# Altium schematic symbol library SCH - MCU - SI LABS - SI LABS EFM32GG12B510F1024IQ64 64-PIN QFP 10X10.SchLib: 1 symbol
Pins are listed as number, name and electrical type; pins without a type are passive.

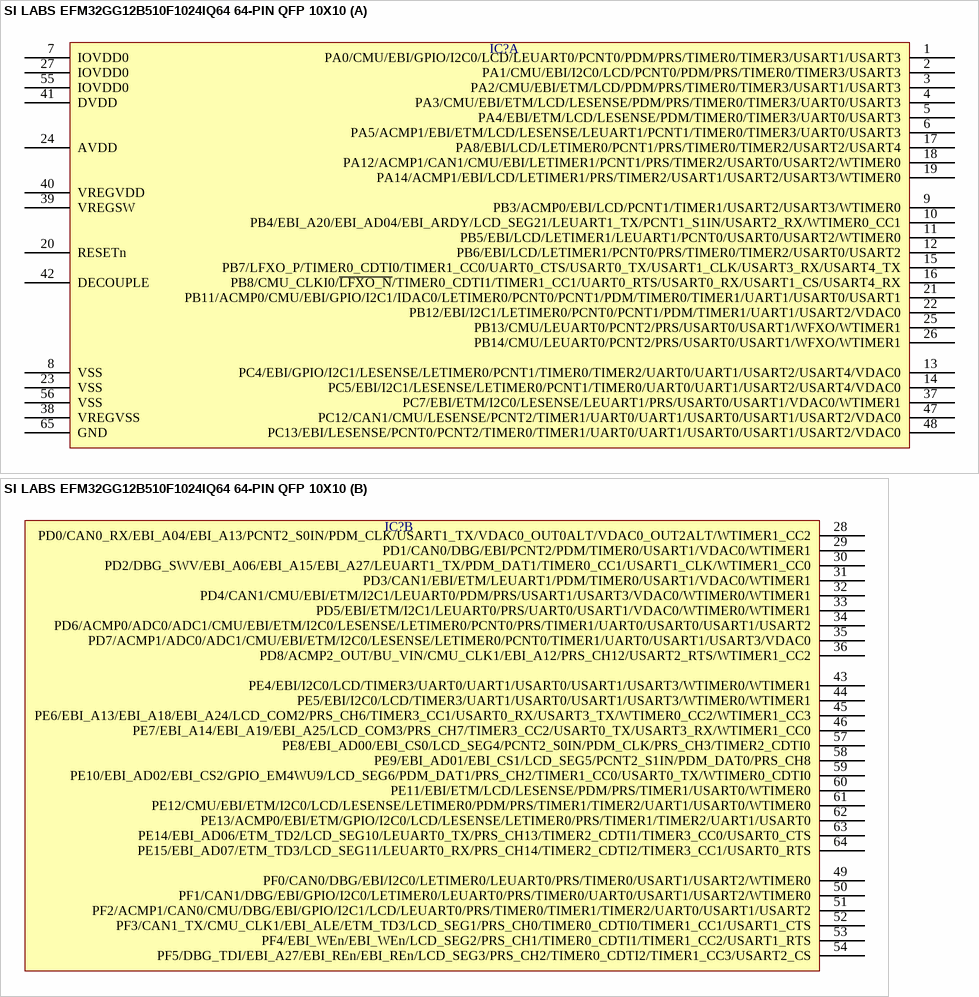
[diagram p0: symbol SI LABS EFM32GG12B510F1024IQ64 64-PIN QFP 10X10]

## SI LABS EFM32GG12B510F1024IQ64 64-PIN QFP 10X10
designator IC?  (value not drawn)
part A pins: 1 PA0/CMU/EBI/GPIO/I2C0/LCD/LEUART0/PCNT0/PDM/PRS/TIMER0/TIMER3/USART1/USART3, 2 PA1/CMU/EBI/I2C0/LCD/PCNT0/PDM/PRS/TIMER0/TIMER3/USART3, 3 PA2/CMU/EBI/ETM/LCD/PDM/PRS/TIMER0/TIMER3/USART1/USART3, 4 PA3/CMU/EBI/ETM/LCD/LESENSE/PDM/PRS/TIMER0/TIMER3/UART0/USART3, 5 PA4/EBI/ETM/LCD/LESENSE/PDM/TIMER0/TIMER3/UART0/USART3, 6 PA5/ACMP1/EBI/ETM/LCD/LESENSE/LEUART1/PCNT1/TIMER0/TIMER3/UART0/USART3, 7 IOVDD0, 8 VSS, 9 PB3/ACMP0/EBI/LCD/PCNT1/TIMER1/USART2/USART3/WTIMER0, 10 PB4/EBI_A20/EBI_AD04/EBI_ARDY/LCD_SEG21/LEUART1_TX/PCNT1_S1IN/USART2_RX/WTIMER0_CC1, 11 PB5/EBI/LCD/LETIMER1/LEUART1/PCNT0/USART0/USART2/WTIMER0, 12 PB6/EBI/LCD/LETIMER1/PCNT0/PRS/TIMER0/TIMER2/USART0/USART2, 13 PC4/EBI/GPIO/I2C1/LESENSE/LETIMER0/PCNT1/TIMER0/TIMER2/UART0/UART1/USART2/USART4/VDAC0, 14 PC5/EBI/I2C1/LESENSE/LETIMER0/PCNT1/TIMER0/UART0/UART1/USART2/USART4/VDAC0, 15 PB7/LFXO_P/TIMER0_CDTI0/TIMER1_CC0/UART0_CTS/USART0_TX/USART1_CLK/USART3_RX/USART4_TX, 16 PB8/CMU_CLKI0/~{LFXO_N}/TIMER0_CDTI1/TIMER1_CC1/UART0_RTS/USART0_RX/USART1_CS/USART4_RX, 17 PA8/EBI/LCD/LETIMER0/PCNT1/PRS/TIMER0/TIMER2/USART2/USART4, 18 PA12/ACMP1/CAN1/CMU/EBI/LETIMER1/PCNT1/PRS/TIMER2/USART0/USART2/WTIMER0, 19 PA14/ACMP1/EBI/LCD/LETIMER1/PRS/TIMER2/USART1/USART2/USART3/WTIMER0, 20 RESETn, 21 PB11/ACMP0/CMU/EBI/GPIO/I2C1/IDAC0/LETIMER0/PCNT0/PCNT1/PDM/TIMER0/TIMER1/UART1/USART0/USART1, 22 PB12/EBI/I2C1/LETIMER0/PCNT0/PCNT1/PDM/TIMER1/UART1/USART2/VDAC0, 23 VSS, 24 AVDD, 25 PB13/CMU/LEUART0/PCNT2/PRS/USART0/USART1/WFXO/WTIMER1, 26 PB14/CMU/LEUART0/PCNT2/PRS/USART0/USART1/WFXO/WTIMER1, 27 IOVDD0, 37 PC7/EBI/ETM/I2C0/LESENSE/LEUART1/PRS/USART0/USART1/VDAC0/WTIMER1, 38 VREGVSS, 39 VREGSW, 40 VREGVDD, 41 DVDD, 42 DECOUPLE, 47 PC12/CAN1/CMU/LESENSE/PCNT2/TIMER1/UART0/UART1/USART0/USART1/USART2/VDAC0, 48 PC13/EBI/LESENSE/PCNT0/PCNT2/TIMER0/TIMER1/UART0/UART1/USART0/USART1/USART2/VDAC0, 55 IOVDD0, 56 VSS, 65 GND
part B pins: 28 PD0/CAN0_RX/EBI_A04/EBI_A13/PCNT2_S0IN/PDM_CLK/USART1_TX/VDAC0_OUT0ALT/VDAC0_OUT2ALT/WTIMER1_CC2, 29 PD1/CAN0/DBG/EBI/PCNT2/PDM/TIMER0/USART1/VDAC0/WTIMER1, 30 PD2/DBG_SWV/EBI_A06/EBI_A15/EBI_A27/LEUART1_TX/PDM_DAT1/TIMER0_CC1/USART1_CLK/WTIMER1_CC0, 31 PD3/CAN1/EBI/ETM/LEUART1/PDM/TIMER0/USART1/VDAC0/WTIMER1, 32 PD4/CAN1/CMU/EBI/ETM/I2C1/LEUART0/PDM/PRS/USART1/USART3/VDAC0/WTIMER0/WTIMER1, 33 PD5/EBI/ETM/I2C1/LEUART0/PRS/UART0/USART1/VDAC0/WTIMER0/WTIMER1, 34 PD6/ACMP0/ADC0/ADC1/CMU/EBI/ETM/I2C0/LESENSE/LETIMER0/PCNT0/PRS/TIMER1/UART0/USART0/USART1/USART2, 35 PD7/ACMP1/ADC0/ADC1/CMU/EBI/ETM/I2C0/LESENSE/LETIMER0/PCNT0/TIMER1/UART0/USART1/USART3/VDAC0, 36 PD8/ACMP2_OUT/BU_VIN/CMU_CLK1/EBI_A12/PRS_CH12/USART2_RTS/WTIMER1_CC2, 43 PE4/EBI/I2C0/LCD/TIMER3/UART0/UART1/USART0/USART1/USART3/WTIMER0/WTIMER1, 44 PE5/EBI/I2C0/LCD/TIMER3/UART1/USART0/USART1/USART3/WTIMER0/WTIMER1, 45 PE6/EBI_A13/EBI_A18/EBI_A24/LCD_COM2/PRS_CH6/TIMER3_CC1/USART0_RX/USART3_TX/WTIMER0_CC2/WTIMER1_CC3, 46 PE7/EBI_A14/EBI_A19/EBI_A25/LCD_COM3/PRS_CH7/TIMER3_CC2/USART0_TX/USART3_RX/WTIMER1_CC0, 49 PF0/CAN0/DBG/EBI/I2C0/LETIMER0/LEUART0/PRS/TIMER0/USART1/USART2/WTIMER0, 50 PF1/CAN1/DBG/EBI/GPIO/I2C0/LETIMER0/LEUART0/PRS/TIMER0/UART0/USART1/USART2/WTIMER0, 51 PF2/ACMP1/CAN0/CMU/DBG/EBI/GPIO/I2C1/LCD/LEUART0/PRS/TIMER0/TIMER1/TIMER2/UART0/USART1/USART2, 52 PF3/CAN1_TX/CMU_CLK1/EBI_ALE/ETM_TD3/LCD_SEG1/PRS_CH0/TIMER0_CDTI0/TIMER1_CC1/USART1_CTS, 53 PF4/EBI_WEn/EBI_WEn/LCD_SEG2/PRS_CH1/TIMER0_CDTI1/TIMER1_CC2/USART1_RTS, 54 PF5/DBG_TDI/EBI_A27/EBI_REn/EBI_REn/LCD_SEG3/PRS_CH2/TIMER0_CDTI2/TIMER1_CC3/USART2_CS, 57 PE8/EBI_AD00/EBI_CS0/LCD_SEG4/PCNT2_S0IN/PDM_CLK/PRS_CH3/TIMER2_CDTI0, 58 PE9/EBI_AD01/EBI_CS1/LCD_SEG5/PCNT2_S1IN/PDM_DAT0/PRS_CH8, 59 PE10/EBI_AD02/EBI_CS2/GPIO_EM4WU9/LCD_SEG6/PDM_DAT1/PRS_CH2/TIMER1_CC0/USART0_TX/WTIMER0_CDTI0, 60 PE11/EBI/ETM/LCD/LESENSE/PDM/PRS/TIMER1/USART0/WTIMER0, 61 PE12/CMU/EBI/ETM/I2C0/LCD/LESENSE/LETIMER0/PDM/PRS/TIMER1/TIMER2/UART1/USART0/WTIMER0, 62 PE13/ACMP0/EBI/ETM/GPIO/I2C0/LCD/LESENSE/LETIMER0/PRS/TIMER1/TIMER2/UART1/USART0, 63 PE14/EBI_AD06/ETM_TD2/LCD_SEG10/LEUART0_TX/PRS_CH13/TIMER2_CDTI1/TIMER3_CC0/USART0_CTS, 64 PE15/EBI_AD07/ETM_TD3/LCD_SEG11/LEUART0_RX/PRS_CH14/TIMER2_CDTI2/TIMER3_CC1/USART0_RTS